# EAGLE library part 3CHANNELRELAY5V (library mesinCuciCustomLib)
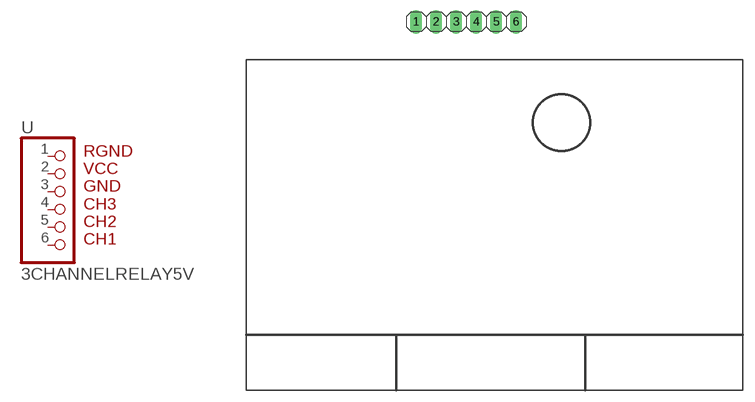
[diagram p0: symbol with the pads of 3CHANNELRELAY; footprint 3CHANNELRELAY]

Designator prefix -

## 3CHANNELRELAY5V  [3CHANNELRELAY]
1  1  pas
2  2  pas
3  3  pas
4  4  pas
5  5  pas
6  6  pas

## Footprint 3CHANNELRELAY (pad centres in mm)
drill 1.016 long: 1 21.54,46.81; 2 24.08,46.81; 3 26.62,46.81; 4 29.16,46.81; 5 31.7,46.81; 6 34.24,46.81